# EAGLE library part AD8656 (library parts)
Low Noise, Precision CMOS Amplifier The AD8655 is a single version
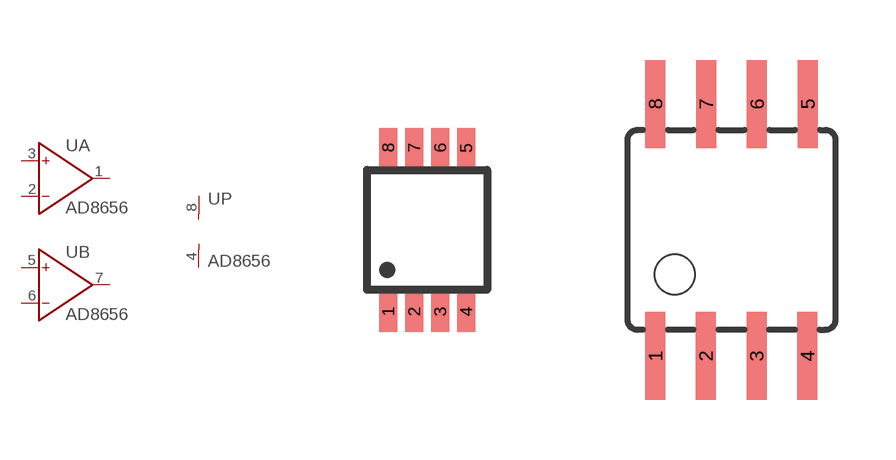
[diagram p13: symbol with the pads of MSOP8; footprints MSOP8, SOIC8]

Designator prefix U; gates A=OP B=OP P=PWR+-

## AD8656ARMZ (RS: 759-2590)  [MSOP8]
1  A:OUT  out
2  A:IN-  in
3  A:IN+  in
4  P:V-  pwr
5  B:IN+  in
6  B:IN-  in
7  B:OUT  out
8  P:V+  pwr

## AD8656ARZ (RS: 759-1370)  [SOIC8]
Pads as for MSOP8

## Footprint MSOP8 (pad centres in mm)
Micro Small Outline Package Grid .65mm
smd 0.45 x 1: 1 -0.975,-2.05; 2 -0.325,-2.05; 3 0.325,-2.05; 4 0.975,-2.05; 5 0.975,2.05; 6 0.325,2.05; 7 -0.325,2.05; 8 -0.975,2.05

## Footprint SOIC8 (pad centres in mm)
8-Lead Small Outline IC (SO-8) EIAJ 200mil body, Source: atmel.lbr
smd 0.5 x 2.2: 1 -1.905,-3.154; 2 -0.645,-3.154; 3 0.625,-3.154; 4 1.895,-3.154; 5 1.905,3.154; 6 0.635,3.154; 7 -0.635,3.154; 8 -1.905,3.154